# Altium schematic symbol library TI-TLVM136_2346_0.SchLib: 3 symbols
Pins are listed as number, name and electrical type; pins without a type are passive.

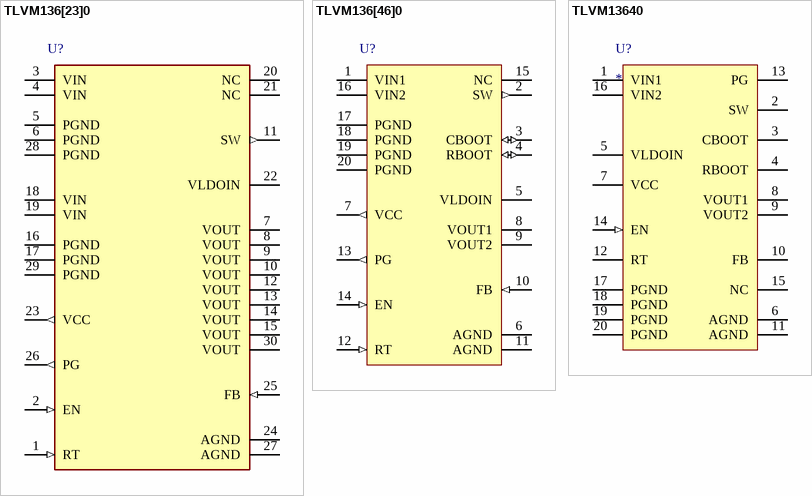
[diagram p0: symbols TLVM136[23]0 to TLVM13640]

## TLVM136[23]0
designator U?
pins: 1 RT (in), 2 EN (in), 3 VIN (power), 4 VIN (power), 5 PGND (power), 6 PGND (power), 7 VOUT (power), 8 VOUT (power), 9 VOUT (power), 10 VOUT (power), 11 SW (out), 12 VOUT (power), 13 VOUT (power), 14 VOUT (power), 15 VOUT (power), 16 PGND (power), 17 PGND (power), 18 VIN (power), 19 VIN (power), 20 NC, 21 NC, 22 VLDOIN (power), 23 VCC (out), 24 AGND (power), 25 FB (in), 26 PG (out), 27 AGND (power), 28 PGND (power), 29 PGND (power), 30 VOUT (power)

## TLVM136[46]0
designator U?
pins: 1 VIN1 (power), 2 SW (out), 3 CBOOT (io), 4 RBOOT (io), 5 VLDOIN (power), 6 AGND (power), 7 VCC (out), 8 VOUT1 (power), 9 VOUT2 (power), 10 FB (in), 11 AGND (power), 12 RT (in), 13 PG (out), 14 EN (in), 15 NC, 16 VIN2 (power), 17 PGND (power), 18 PGND (power), 19 PGND (power), 20 PGND (power)

## TLVM13640
designator U?
pins: 1 VIN1 (power), 2 SW, 3 CBOOT, 4 RBOOT, 5 VLDOIN (power), 6 AGND (power), 7 VCC (power), 8 VOUT1 (power), 9 VOUT2 (power), 10 FB, 11 AGND (power), 12 RT, 13 PG (oc), 14 EN (in), 15 NC, 16 VIN2 (power), 17 PGND (power), 18 PGND (power), 19 PGND (power), 20 PGND (power)